# Altium footprint library Everlight.PcbLib: 1 footprints
Each footprint in its own frame and in the unit in brackets; x right, y up, seen from the top. Pads: shape width x height; smd on the part's side, far side on the other; paste and mask are expansions set on the pad; w line width, h text height; cw(c..) or ccw(c..) is an arc to the next point about the centre after c.
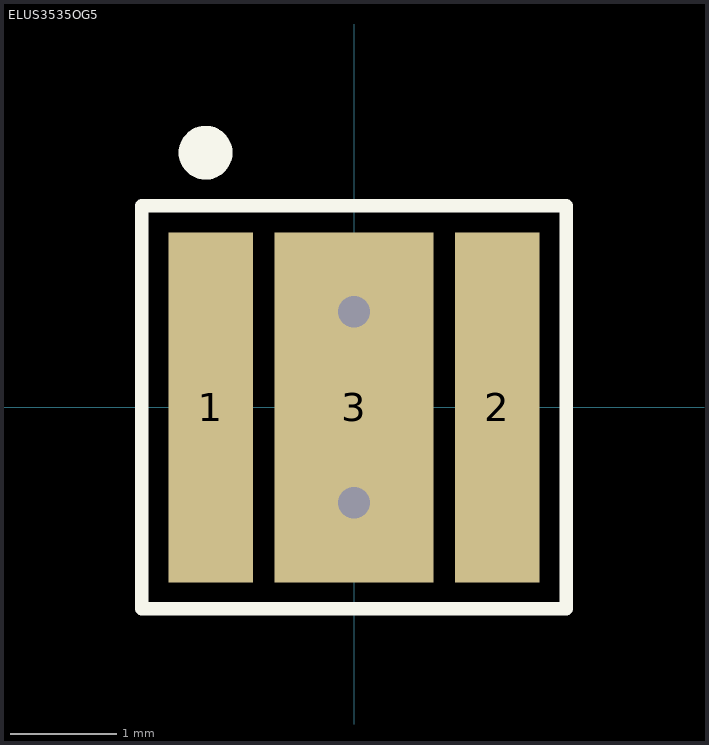
[diagram p0: the footprint, top view; thin cyan lines are the x and y axes]

## ELUS3535OG5 [mm]
pads (3):
  rect 0.8x3.3 smd: 1(-1.35,0) 2(1.35,0)
  rect 1.5x3.3 smd: 3(0,0)
via 0,-0.9 diameter 1 hole 0.3
via 0,0.9 diameter 1 hole 0.3
Top Overlay:
  circle w0.254: c-1.4,2.4 r0.127
  lines w0.127: -2,-1.9 2,-1.9 2,1.9 -2,1.9 -2,-1.9
3D body "ELUA3535OG5.step": height 3.7, standoff 0, extent -1.75,-1.75 1.75,1.75